# Altium schematic symbol library 2021-06-29_08-18-09.SchLib: 2 symbols
Pins are listed as number, name and electrical type; pins without a type are passive.

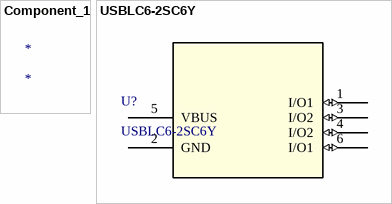
[diagram p0: symbols Component_1 to USBLC6-2SC6Y]

## Component_1
designator *

## USBLC6-2SC6Y
designator U?
No Description Available; Built_By: EMA_UL_Team; Vendor: STMicroelectronics; SourceLibrary: Update_to_database_2020-12-04; Manufacturer_Part_Number: USBLC6-2SC6Y; Copyright: Copyright (C) 2021 Accelerated Designs. All rights reserved; RefDes: RefDes; Type: DEV
footprint SOT23-6L_STM
pins: 1 I/O1 (io), 2 GND (power), 3 I/O2 (io), 4 I/O2 (io), 5 VBUS (power), 6 I/O1 (io)